# EAGLE library part 254 (library TSat0-Library)
Check availability <https://pricing.snapeda.com/parts/254/Adafruit/view-part?ref=eda>
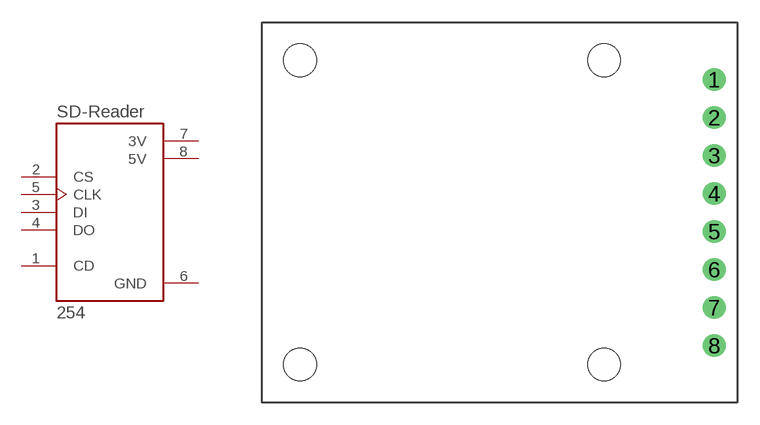
[diagram p2: symbol with the pads of MODULE_254; footprint MODULE_254]

Designator prefix U

## 254 (AVAILABILITY: In Stock; CHECK_PRICES: https://www.snapeda.com/parts/254/Adafruit+Industries/view-part/?ref=eda; DESCRIPTION: MicroSD card breakout board+ | Adafruit Industries 254; MF: Adafruit; MP: 254; PACKAGE: NON STANDARD Adafruit; PRICE: None; PURCHASE-URL: https://www.snapeda.com/api/url_track_click_mouser/?unipart_id=4653161&manufacturer=Adafruit&part_name=254&search_term=None; SNAPEDA_LINK: https://www.snapeda.com/parts/254/Adafruit+Industries/view-part/?ref=snap)  [MODULE_254]
1  CD
2  CS  in
3  DI  in
4  DO  out
5  CLK  in
6  GND  pwr
7  3V  pwr
8  5V  pwr

## Footprint MODULE_254 (pad centres in mm)
drill 1.02: 1 14.351,8.89; 2 14.351,6.35; 3 14.351,3.81; 4 14.351,1.27; 5 14.351,-1.27; 6 14.351,-3.81; 7 14.351,-6.35; 8 14.351,-8.89
hole 2.2 at -13.335,10.16
hole 2.2 at 6.985,10.16
hole 2.2 at 6.985,-10.16
hole 2.2 at -13.335,-10.16